# Altium schematic symbol library SP485EEN-L_TR.Schlib: 1 symbol
Pins are listed as number, name and electrical type; pins without a type are passive.

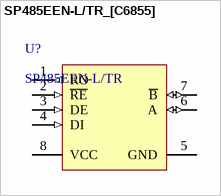
[diagram p0: symbol SP485EEN-L/TR_[C6855]]

## SP485EEN-L/TR_[C6855]
designator U?, comment SP485EEN-L/TR
RS-485/RS-422
footprint SOIC-8_150mil
pins: 1 RO (out), 2 ~{RE} (in), 3 DE (in), 4 DI (in), 5 GND (power), 6 A (io), 7 ~{B} (io), 8 VCC (power)